# Altium footprint library 1932638-3.PcbLib: 1 footprints
Each footprint in its own frame and in the unit in brackets; x right, y up, seen from the top. Pads: shape width x height; smd on the part's side, far side on the other; paste and mask are expansions set on the pad; w line width, h text height; cw(c..) or ccw(c..) is an arc to the next point about the centre after c.
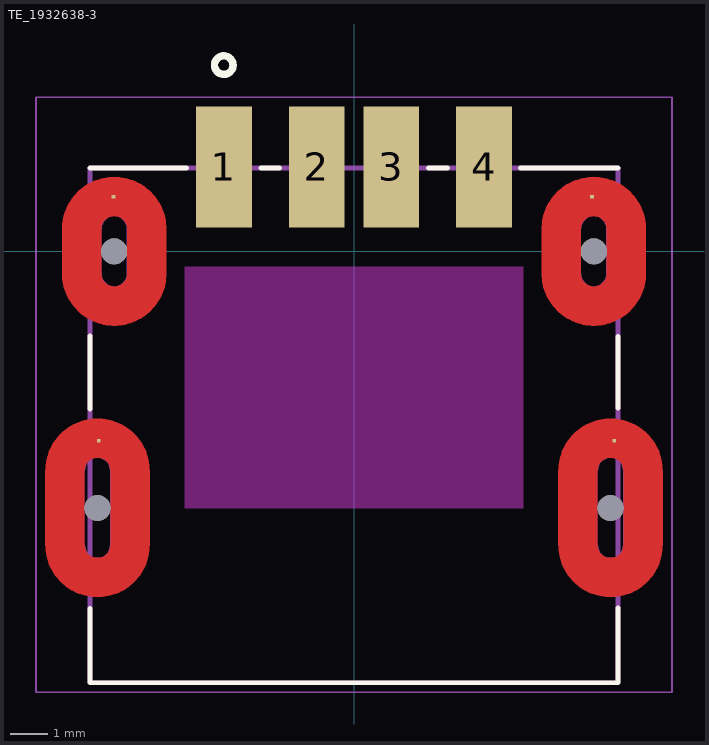
[diagram p0: the footprint, top view; thin cyan lines are the x and y axes]

## TE_1932638-3 [mm]
pads (12):
  rect 1.5x3.25 smd: 1(-3.5,2.27) 2(-1,2.27) 3(1,2.27) 4(3.5,2.27)
  rect 0.1x0.1 smd paste-1 mask+0: P1(-6.47,1.47) P2(6.4,1.47) SH1(-6.87,-5.1) SH2(7,-5.1)
  round 0.7 hole 0.7 unplated: ""(-6.9,-6.91) ""(-6.45,0) ""(6.45,0) ""(6.9,-6.91)
Top Layer:
  region: -6.9,-5.55 -6.918,-5.55 -6.937,-5.552 -6.955,-5.554 -6.973,-5.558 -6.991,-5.562 -7.008,-5.567 -7.025,-5.573 -7.042,-5.58 -7.059,-5.588 -7.075,-5.597 -7.091,-5.606 -7.106,-5.617 -7.12,-5.628 -7.134,-5.64 -7.147,-5.653 -7.16,-5.666 -7.172,-5.68 -7.183,-5.694 -7.194,-5.709 -7.203,-5.725 -7.212,-5.741 -7.22,-5.758 -7.227,-5.775 -7.233,-5.792 -7.238,-5.809 -7.242,-5.827 -7.246,-5.845 -7.248,-5.863 -7.25,-5.882 -7.25,-5.9 -7.25,-7.9 -7.25,-7.918 -7.248,-7.937 -7.246,-7.955 -7.242,-7.973 -7.238,-7.991 -7.233,-8.008 -7.227,-8.025 -7.22,-8.042 -7.212,-8.059 -7.203,-8.075 -7.194,-8.091 -7.183,-8.106 -7.172,-8.12 -7.16,-8.134 -7.147,-8.147 -7.134,-8.16 -7.12,-8.172 -7.106,-8.183 -7.091,-8.194 -7.075,-8.203 -7.059,-8.212 -7.042,-8.22 -7.025,-8.227 -7.008,-8.233 -6.991,-8.238 -6.973,-8.242 -6.955,-8.246 -6.937,-8.248 -6.918,-8.25 -6.9,-8.25 -6.9,-9.3 -6.973,-9.298 -7.046,-9.292 -7.119,-9.283 -7.191,-9.269 -7.262,-9.252 -7.333,-9.231 -7.402,-9.207 -7.469,-9.179 -7.536,-9.147 -7.6,-9.112 -7.662,-9.074 -7.723,-9.033 -7.781,-8.988 -7.837,-8.94 -7.89,-8.89 -7.94,-8.837 -7.988,-8.781 -8.033,-8.723 -8.074,-8.662 -8.112,-8.6 -8.147,-8.536 -8.179,-8.469 -8.207,-8.402 -8.231,-8.333 -8.252,-8.262 -8.269,-8.191 -8.283,-8.119 -8.292,-8.046 -8.298,-7.973 -8.3,-7.9 -8.3,-5.9 -8.298,-5.827 -8.292,-5.754 -8.283,-5.681 -8.269,-5.609 -8.252,-5.538 -8.231,-5.467 -8.207,-5.398 -8.179,-5.331 -8.147,-5.264 -8.112,-5.2 -8.074,-5.138 -8.033,-5.077 -7.988,-5.019 -7.94,-4.963 -7.89,-4.91 -7.837,-4.86 -7.781,-4.812 -7.723,-4.767 -7.662,-4.726 -7.6,-4.688 -7.536,-4.653 -7.469,-4.621 -7.402,-4.593 -7.333,-4.569 -7.262,-4.548 -7.191,-4.531 -7.119,-4.517 -7.046,-4.508 -6.973,-4.502 -6.9,-4.5
  region: -6.827,-4.502 -6.754,-4.508 -6.681,-4.517 -6.609,-4.531 -6.538,-4.548 -6.467,-4.569 -6.398,-4.593 -6.331,-4.621 -6.264,-4.653 -6.2,-4.688 -6.138,-4.726 -6.077,-4.767 -6.019,-4.812 -5.963,-4.86 -5.91,-4.91 -5.86,-4.963 -5.812,-5.019 -5.767,-5.077 -5.726,-5.138 -5.688,-5.2 -5.653,-5.264 -5.621,-5.331 -5.593,-5.398 -5.569,-5.467 -5.548,-5.538 -5.531,-5.609 -5.517,-5.681 -5.508,-5.754 -5.502,-5.827 -5.5,-5.9 -5.5,-7.9 -5.502,-7.973 -5.508,-8.046 -5.517,-8.119 -5.531,-8.191 -5.548,-8.262 -5.569,-8.333 -5.593,-8.402 -5.621,-8.469 -5.653,-8.536 -5.688,-8.6 -5.726,-8.662 -5.767,-8.723 -5.812,-8.781 -5.86,-8.837 -5.91,-8.89 -5.963,-8.94 -6.019,-8.988 -6.077,-9.033 -6.138,-9.074 -6.2,-9.112 -6.264,-9.147 -6.331,-9.179 -6.398,-9.207 -6.467,-9.231 -6.538,-9.252 -6.609,-9.269 -6.681,-9.283 -6.754,-9.292 -6.827,-9.298 -6.9,-9.3 -6.9,-8.25 -6.882,-8.25 -6.863,-8.248 -6.845,-8.246 -6.827,-8.242 -6.809,-8.238 -6.792,-8.233 -6.775,-8.227 -6.758,-8.22 -6.741,-8.212 -6.725,-8.203 -6.709,-8.194 -6.694,-8.183 -6.68,-8.172 -6.666,-8.16 -6.653,-8.147 -6.64,-8.134 -6.628,-8.12 -6.617,-8.106 -6.606,-8.091 -6.597,-8.075 -6.588,-8.059 -6.58,-8.042 -6.573,-8.025 -6.567,-8.008 -6.562,-7.991 -6.558,-7.973 -6.554,-7.955 -6.552,-7.937 -6.55,-7.918 -6.55,-7.9 -6.55,-5.9 -6.55,-5.882 -6.552,-5.863 -6.554,-5.845 -6.558,-5.827 -6.562,-5.809 -6.567,-5.792 -6.573,-5.775 -6.58,-5.758 -6.588,-5.741 -6.597,-5.725 -6.606,-5.709 -6.617,-5.694 -6.628,-5.68 -6.64,-5.666 -6.653,-5.653 -6.666,-5.64 -6.68,-5.628 -6.694,-5.617 -6.709,-5.606 -6.725,-5.597 -6.741,-5.588 -6.758,-5.58 -6.775,-5.573 -6.792,-5.567 -6.809,-5.562 -6.827,-5.558 -6.845,-5.554 -6.863,-5.552 -6.882,-5.55 -6.9,-5.55 -6.9,-4.5
  region: 6.9,-5.55 6.882,-5.55 6.863,-5.552 6.845,-5.554 6.827,-5.558 6.809,-5.562 6.792,-5.567 6.775,-5.573 6.758,-5.58 6.741,-5.588 6.725,-5.597 6.709,-5.606 6.694,-5.617 6.68,-5.628 6.666,-5.64 6.653,-5.653 6.64,-5.666 6.628,-5.68 6.617,-5.694 6.606,-5.709 6.597,-5.725 6.588,-5.741 6.58,-5.758 6.573,-5.775 6.567,-5.792 6.562,-5.809 6.558,-5.827 6.554,-5.845 6.552,-5.863 6.55,-5.882 6.55,-5.9 6.55,-7.9 6.55,-7.918 6.552,-7.937 6.554,-7.955 6.558,-7.973 6.562,-7.991 6.567,-8.008 6.573,-8.025 6.58,-8.042 6.588,-8.059 6.597,-8.075 6.606,-8.091 6.617,-8.106 6.628,-8.12 6.64,-8.134 6.653,-8.147 6.666,-8.16 6.68,-8.172 6.694,-8.183 6.709,-8.194 6.725,-8.203 6.741,-8.212 6.758,-8.22 6.775,-8.227 6.792,-8.233 6.809,-8.238 6.827,-8.242 6.845,-8.246 6.863,-8.248 6.882,-8.25 6.9,-8.25 6.9,-9.3 6.827,-9.298 6.754,-9.292 6.681,-9.283 6.609,-9.269 6.538,-9.252 6.467,-9.231 6.398,-9.207 6.331,-9.179 6.264,-9.147 6.2,-9.112 6.138,-9.074 6.077,-9.033 6.019,-8.988 5.963,-8.94 5.91,-8.89 5.86,-8.837 5.812,-8.781 5.767,-8.723 5.726,-8.662 5.688,-8.6 5.653,-8.536 5.621,-8.469 5.593,-8.402 5.569,-8.333 5.548,-8.262 5.531,-8.191 5.517,-8.119 5.508,-8.046 5.502,-7.973 5.5,-7.9 5.5,-5.9 5.502,-5.827 5.508,-5.754 5.517,-5.681 5.531,-5.609 5.548,-5.538 5.569,-5.467 5.593,-5.398 5.621,-5.331 5.653,-5.264 5.688,-5.2 5.726,-5.138 5.767,-5.077 5.812,-5.019 5.86,-4.963 5.91,-4.91 5.963,-4.86 6.019,-4.812 6.077,-4.767 6.138,-4.726 6.2,-4.688 6.264,-4.653 6.331,-4.621 6.398,-4.593 6.467,-4.569 6.538,-4.548 6.609,-4.531 6.681,-4.517 6.754,-4.508 6.827,-4.502 6.9,-4.5
  region: 6.973,-4.502 7.046,-4.508 7.119,-4.517 7.191,-4.531 7.262,-4.548 7.333,-4.569 7.402,-4.593 7.469,-4.621 7.536,-4.653 7.6,-4.688 7.662,-4.726 7.723,-4.767 7.781,-4.812 7.837,-4.86 7.89,-4.91 7.94,-4.963 7.988,-5.019 8.033,-5.077 8.074,-5.138 8.112,-5.2 8.147,-5.264 8.179,-5.331 8.207,-5.398 8.231,-5.467 8.252,-5.538 8.269,-5.609 8.283,-5.681 8.292,-5.754 8.298,-5.827 8.3,-5.9 8.3,-7.9 8.298,-7.973 8.292,-8.046 8.283,-8.119 8.269,-8.191 8.252,-8.262 8.231,-8.333 8.207,-8.402 8.179,-8.469 8.147,-8.536 8.112,-8.6 8.074,-8.662 8.033,-8.723 7.988,-8.781 7.94,-8.837 7.89,-8.89 7.837,-8.94 7.781,-8.988 7.723,-9.033 7.662,-9.074 7.6,-9.112 7.536,-9.147 7.469,-9.179 7.402,-9.207 7.333,-9.231 7.262,-9.252 7.191,-9.269 7.119,-9.283 7.046,-9.292 6.973,-9.298 6.9,-9.3 6.9,-8.25 6.918,-8.25 6.937,-8.248 6.955,-8.246 6.973,-8.242 6.991,-8.238 7.008,-8.233 7.025,-8.227 7.042,-8.22 7.059,-8.212 7.075,-8.203 7.091,-8.194 7.106,-8.183 7.12,-8.172 7.134,-8.16 7.147,-8.147 7.16,-8.134 7.172,-8.12 7.183,-8.106 7.194,-8.091 7.203,-8.075 7.212,-8.059 7.22,-8.042 7.227,-8.025 7.233,-8.008 7.238,-7.991 7.242,-7.973 7.246,-7.955 7.248,-7.937 7.25,-7.918 7.25,-7.9 7.25,-5.9 7.25,-5.882 7.248,-5.863 7.246,-5.845 7.242,-5.827 7.238,-5.809 7.233,-5.792 7.227,-5.775 7.22,-5.758 7.212,-5.741 7.203,-5.725 7.194,-5.709 7.183,-5.694 7.172,-5.68 7.16,-5.666 7.147,-5.653 7.134,-5.64 7.12,-5.628 7.106,-5.617 7.091,-5.606 7.075,-5.597 7.059,-5.588 7.042,-5.58 7.025,-5.573 7.008,-5.567 6.991,-5.562 6.973,-5.558 6.955,-5.554 6.937,-5.552 6.918,-5.55 6.9,-5.55 6.9,-4.5
  region: -6.45,0.95 -6.468,0.95 -6.487,0.948 -6.505,0.946 -6.523,0.942 -6.541,0.938 -6.558,0.933 -6.575,0.927 -6.592,0.92 -6.609,0.912 -6.625,0.903 -6.641,0.894 -6.656,0.883 -6.67,0.872 -6.684,0.86 -6.697,0.847 -6.71,0.834 -6.722,0.82 -6.733,0.806 -6.744,0.791 -6.753,0.775 -6.762,0.759 -6.77,0.742 -6.777,0.725 -6.783,0.708 -6.788,0.691 -6.792,0.673 -6.796,0.655 -6.798,0.637 -6.8,0.618 -6.8,0.6 -6.8,-0.6 -6.8,-0.618 -6.798,-0.637 -6.796,-0.655 -6.792,-0.673 -6.788,-0.691 -6.783,-0.708 -6.777,-0.725 -6.77,-0.742 -6.762,-0.759 -6.753,-0.775 -6.744,-0.791 -6.733,-0.806 -6.722,-0.82 -6.71,-0.834 -6.697,-0.847 -6.684,-0.86 -6.67,-0.872 -6.656,-0.883 -6.641,-0.894 -6.625,-0.903 -6.609,-0.912 -6.592,-0.92 -6.575,-0.927 -6.558,-0.933 -6.541,-0.938 -6.523,-0.942 -6.505,-0.946 -6.487,-0.948 -6.468,-0.95 -6.45,-0.95 -6.45,-2 -6.523,-1.998 -6.596,-1.992 -6.669,-1.983 -6.741,-1.969 -6.812,-1.952 -6.883,-1.931 -6.952,-1.907 -7.019,-1.879 -7.086,-1.847 -7.15,-1.812 -7.212,-1.774 -7.273,-1.733 -7.331,-1.688 -7.387,-1.64 -7.44,-1.59 -7.49,-1.537 -7.538,-1.481 -7.583,-1.423 -7.624,-1.362 -7.662,-1.3 -7.697,-1.236 -7.729,-1.169 -7.757,-1.102 -7.781,-1.033 -7.802,-0.962 -7.819,-0.891 -7.833,-0.819 -7.842,-0.746 -7.848,-0.673 -7.85,-0.6 -7.85,0.6 -7.848,0.673 -7.842,0.746 -7.833,0.819 -7.819,0.891 -7.802,0.962 -7.781,1.033 -7.757,1.102 -7.729,1.169 -7.697,1.236 -7.662,1.3 -7.624,1.362 -7.583,1.423 -7.538,1.481 -7.49,1.537 -7.44,1.59 -7.387,1.64 -7.331,1.688 -7.273,1.733 -7.212,1.774 -7.15,1.812 -7.086,1.847 -7.019,1.879 -6.952,1.907 -6.883,1.931 -6.812,1.952 -6.741,1.969 -6.669,1.983 -6.596,1.992 -6.523,1.998 -6.45,2
  region: -6.377,1.998 -6.304,1.992 -6.231,1.983 -6.159,1.969 -6.088,1.952 -6.017,1.931 -5.948,1.907 -5.881,1.879 -5.814,1.847 -5.75,1.812 -5.688,1.774 -5.627,1.733 -5.569,1.688 -5.513,1.64 -5.46,1.59 -5.41,1.537 -5.362,1.481 -5.317,1.423 -5.276,1.362 -5.238,1.3 -5.203,1.236 -5.171,1.169 -5.143,1.102 -5.119,1.033 -5.098,0.962 -5.081,0.891 -5.067,0.819 -5.058,0.746 -5.052,0.673 -5.05,0.6 -5.05,-0.6 -5.052,-0.673 -5.058,-0.746 -5.067,-0.819 -5.081,-0.891 -5.098,-0.962 -5.119,-1.033 -5.143,-1.102 -5.171,-1.169 -5.203,-1.236 -5.238,-1.3 -5.276,-1.362 -5.317,-1.423 -5.362,-1.481 -5.41,-1.537 -5.46,-1.59 -5.513,-1.64 -5.569,-1.688 -5.627,-1.733 -5.688,-1.774 -5.75,-1.812 -5.814,-1.847 -5.881,-1.879 -5.948,-1.907 -6.017,-1.931 -6.088,-1.952 -6.159,-1.969 -6.231,-1.983 -6.304,-1.992 -6.377,-1.998 -6.45,-2 -6.45,-0.95 -6.432,-0.95 -6.413,-0.948 -6.395,-0.946 -6.377,-0.942 -6.359,-0.938 -6.342,-0.933 -6.325,-0.927 -6.308,-0.92 -6.291,-0.912 -6.275,-0.903 -6.259,-0.894 -6.244,-0.883 -6.23,-0.872 -6.216,-0.86 -6.203,-0.847 -6.19,-0.834 -6.178,-0.82 -6.167,-0.806 -6.156,-0.791 -6.147,-0.775 -6.138,-0.759 -6.13,-0.742 -6.123,-0.725 -6.117,-0.708 -6.112,-0.691 -6.108,-0.673 -6.104,-0.655 -6.102,-0.637 -6.1,-0.618 -6.1,-0.6 -6.1,0.6 -6.1,0.618 -6.102,0.637 -6.104,0.655 -6.108,0.673 -6.112,0.691 -6.117,0.708 -6.123,0.725 -6.13,0.742 -6.138,0.759 -6.147,0.775 -6.156,0.791 -6.167,0.806 -6.178,0.82 -6.19,0.834 -6.203,0.847 -6.216,0.86 -6.23,0.872 -6.244,0.883 -6.259,0.894 -6.275,0.903 -6.291,0.912 -6.308,0.92 -6.325,0.927 -6.342,0.933 -6.359,0.938 -6.377,0.942 -6.395,0.946 -6.413,0.948 -6.432,0.95 -6.45,0.95 -6.45,2
  region: 6.45,0.95 6.432,0.95 6.413,0.948 6.395,0.946 6.377,0.942 6.359,0.938 6.342,0.933 6.325,0.927 6.308,0.92 6.291,0.912 6.275,0.903 6.259,0.894 6.244,0.883 6.23,0.872 6.216,0.86 6.203,0.847 6.19,0.834 6.178,0.82 6.167,0.806 6.156,0.791 6.147,0.775 6.138,0.759 6.13,0.742 6.123,0.725 6.117,0.708 6.112,0.691 6.108,0.673 6.104,0.655 6.102,0.637 6.1,0.618 6.1,0.6 6.1,-0.6 6.1,-0.618 6.102,-0.637 6.104,-0.655 6.108,-0.673 6.112,-0.691 6.117,-0.708 6.123,-0.725 6.13,-0.742 6.138,-0.759 6.147,-0.775 6.156,-0.791 6.167,-0.806 6.178,-0.82 6.19,-0.834 6.203,-0.847 6.216,-0.86 6.23,-0.872 6.244,-0.883 6.259,-0.894 6.275,-0.903 6.291,-0.912 6.308,-0.92 6.325,-0.927 6.342,-0.933 6.359,-0.938 6.377,-0.942 6.395,-0.946 6.413,-0.948 6.432,-0.95 6.45,-0.95 6.45,-2 6.377,-1.998 6.304,-1.992 6.231,-1.983 6.159,-1.969 6.088,-1.952 6.017,-1.931 5.948,-1.907 5.881,-1.879 5.814,-1.847 5.75,-1.812 5.688,-1.774 5.627,-1.733 5.569,-1.688 5.513,-1.64 5.46,-1.59 5.41,-1.537 5.362,-1.481 5.317,-1.423 5.276,-1.362 5.238,-1.3 5.203,-1.236 5.171,-1.169 5.143,-1.102 5.119,-1.033 5.098,-0.962 5.081,-0.891 5.067,-0.819 5.058,-0.746 5.052,-0.673 5.05,-0.6 5.05,0.6 5.052,0.673 5.058,0.746 5.067,0.819 5.081,0.891 5.098,0.962 5.119,1.033 5.143,1.102 5.171,1.169 5.203,1.236 5.238,1.3 5.276,1.362 5.317,1.423 5.362,1.481 5.41,1.537 5.46,1.59 5.513,1.64 5.569,1.688 5.627,1.733 5.688,1.774 5.75,1.812 5.814,1.847 5.881,1.879 5.948,1.907 6.017,1.931 6.088,1.952 6.159,1.969 6.231,1.983 6.304,1.992 6.377,1.998 6.45,2
  region: 6.523,1.998 6.596,1.992 6.669,1.983 6.741,1.969 6.812,1.952 6.883,1.931 6.952,1.907 7.019,1.879 7.086,1.847 7.15,1.812 7.212,1.774 7.273,1.733 7.331,1.688 7.387,1.64 7.44,1.59 7.49,1.537 7.538,1.481 7.583,1.423 7.624,1.362 7.662,1.3 7.697,1.236 7.729,1.169 7.757,1.102 7.781,1.033 7.802,0.962 7.819,0.891 7.833,0.819 7.842,0.746 7.848,0.673 7.85,0.6 7.85,-0.6 7.848,-0.673 7.842,-0.746 7.833,-0.819 7.819,-0.891 7.802,-0.962 7.781,-1.033 7.757,-1.102 7.729,-1.169 7.697,-1.236 7.662,-1.3 7.624,-1.362 7.583,-1.423 7.538,-1.481 7.49,-1.537 7.44,-1.59 7.387,-1.64 7.331,-1.688 7.273,-1.733 7.212,-1.774 7.15,-1.812 7.086,-1.847 7.019,-1.879 6.952,-1.907 6.883,-1.931 6.812,-1.952 6.741,-1.969 6.669,-1.983 6.596,-1.992 6.523,-1.998 6.45,-2 6.45,-0.95 6.468,-0.95 6.487,-0.948 6.505,-0.946 6.523,-0.942 6.541,-0.938 6.558,-0.933 6.575,-0.927 6.592,-0.92 6.609,-0.912 6.625,-0.903 6.641,-0.894 6.656,-0.883 6.67,-0.872 6.684,-0.86 6.697,-0.847 6.71,-0.834 6.722,-0.82 6.733,-0.806 6.744,-0.791 6.753,-0.775 6.762,-0.759 6.77,-0.742 6.777,-0.725 6.783,-0.708 6.788,-0.691 6.792,-0.673 6.796,-0.655 6.798,-0.637 6.8,-0.618 6.8,-0.6 6.8,0.6 6.8,0.618 6.798,0.637 6.796,0.655 6.792,0.673 6.788,0.691 6.783,0.708 6.777,0.725 6.77,0.742 6.762,0.759 6.753,0.775 6.744,0.791 6.733,0.806 6.722,0.82 6.71,0.834 6.697,0.847 6.684,0.86 6.67,0.872 6.656,0.883 6.641,0.894 6.625,0.903 6.609,0.912 6.592,0.92 6.575,0.927 6.558,0.933 6.541,0.938 6.523,0.942 6.505,0.946 6.487,0.948 6.468,0.95 6.45,0.95 6.45,2
Top Overlay:
  circle w0.2: c-3.503,5.009 r0.25
  lines w0.127: -7.1,-9.6 -7.1,-11.61 7.1,-11.61 7.1,-9.59 ; -7.1,-4.24 -7.1,-2.28 ; -7.1,2.24 -4.5,2.24 ; -2.5,2.24 -2,2.24 ; 2,2.24 2.52,2.24 ; 4.48,2.24 7.1,2.24 ; 7.1,-4.22 7.1,-2.29
Top Paste:
  drawing of 8 lines, arcs and shapes, not listed
Bottom Paste:
  drawing of 8 lines, arcs and shapes, not listed
Top Solder:
  region: -4.95,-2.104 -7.965,-2.104 -7.965,2.1 -4.95,2.1
  region: 7.95,-2.102 4.955,-2.102 4.955,2.1 7.95,2.1
  region: -5.4,-9.41 -8.409,-9.41 -8.409,-4.4 -5.4,-4.4
  region: 8.4,-9.405 5.403,-9.405 5.403,-4.4 8.4,-4.4
Bottom Solder:
  region: 7.95,-2.103 4.957,-2.103 4.957,2.1 7.95,2.1
  region: -4.95,-2.103 -7.96,-2.103 -7.96,2.1 -4.95,2.1
  region: -5.4,-9.41 -8.409,-9.41 -8.409,-4.4 -5.4,-4.4
  region: 8.4,-9.402 5.401,-9.402 5.401,-4.4 8.4,-4.4
Keep-Out Layer:
  region: 4.55,-6.914 -4.553,-6.914 -4.553,-0.41 4.55,-0.41
Mechanical 1:
  lines w0: -7.25,-7.9 ccw(c-6.9,-7.9) -6.9,-8.25 ccw(c-6.9,-7.9) -6.55,-7.9 -6.55,-5.9 ccw(c-6.9,-5.9) -6.9,-5.55 ccw(c-6.9,-5.9) -7.25,-5.9 -7.25,-7.9 ; -6.8,-0.6 ccw(c-6.45,-0.6) -6.45,-0.95 ccw(c-6.45,-0.6) -6.1,-0.6 -6.1,0.6 ccw(c-6.45,0.6) -6.45,0.95 ccw(c-6.45,0.6) -6.8,0.6 -6.8,-0.6 ; 6.1,-0.6 ccw(c6.45,-0.6) 6.45,-0.95 ccw(c6.45,-0.6) 6.8,-0.6 6.8,0.6 ccw(c6.45,0.6) 6.45,0.95 ccw(c6.45,0.6) 6.1,0.6 6.1,-0.6 ; 6.55,-7.9 ccw(c6.9,-7.9) 6.9,-8.25 ccw(c6.9,-7.9) 7.25,-7.9 7.25,-5.9 ccw(c6.9,-5.9) 6.9,-5.55 ccw(c6.9,-5.9) 6.55,-5.9 6.55,-7.9
Mechanical 13:
  circle w0.2: c-3.503,1.609 r0.25
  lines w0.127: -7.1,-11.61 -7.1,2.24 7.1,2.24 7.1,-11.61 -7.1,-11.61
Mechanical 15:
  lines w0.05: -8.55,-11.86 8.55,-11.86 8.55,4.145 -8.55,4.145 -8.55,-11.86
3D body "1932638-3.stp": height 7.62, standoff -1.24, extent -7.315,-11.684 7.315,3.256